# Altium schematic symbol library [SEN0335][M027.00014]environmental Module ENS160+BME280(V2.0.0).SchLib: 1 symbol
Pins are listed as number, name and electrical type; pins without a type are passive.

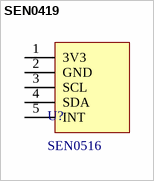
[diagram p0: symbol SEN0419]

## SEN0419
designator U?, comment SEN0516
footprint SEN0419
pins: 1 3V3, 2 GND, 3 SCL, 4 SDA, 5 INT